# Altium footprint library INDC1005X60L.PCBLIB: 1 footprints
Each footprint in its own frame and in the unit in brackets; x right, y up, seen from the top. Pads: shape width x height; smd on the part's side, far side on the other; paste and mask are expansions set on the pad; w line width, h text height; cw(c..) or ccw(c..) is an arc to the next point about the centre after c.
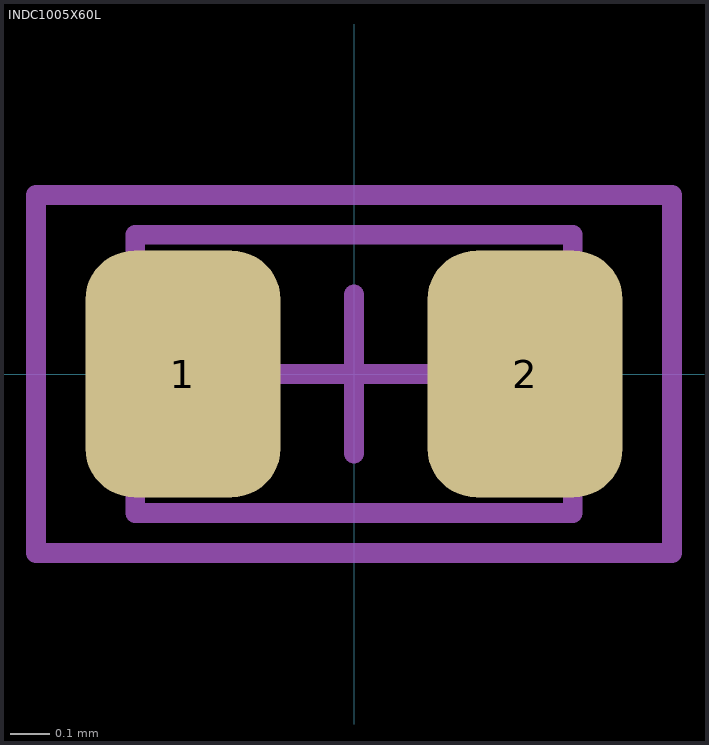
[diagram p0: the footprint, top view; thin cyan lines are the x and y axes]

## INDC1005X60L [mm]
pads (2):
  rrect50% 0.49x0.62 smd: 1(-0.43,0) 2(0.43,0)
Mechanical 13:
  lines w0.001: -0.55,-0.35 0.55,-0.35 ; -0.55,-0.35 -0.55,0.35 ; -0.55,-0.35 0.55,-0.35 ; -0.55,-0.35 -0.55,0.35 ; -0.55,0.35 0.55,0.35 ; -0.55,0.35 0.55,0.35 ; 0.55,-0.35 0.55,0.35 ; 0.55,-0.35 0.55,0.35
  lines w0.05: -0.55,-0.35 0.55,-0.35 0.55,0.35 -0.55,0.35 -0.55,-0.35
Mechanical 15:
  lines w0.05: -0.2,0 0.2,0 ; 0,-0.2 0,0.2 ; -0.8,-0.45 0.8,-0.45 0.8,0.45 -0.8,0.45 -0.8,-0.45
3D body: height 0.5, standoff 0.05, extent 0.375,-0.35 0.55,0.35
3D body: height 0.5, standoff 0.05, extent -0.375,-0.35 0.375,0.35
3D body: height 0.5, standoff 0.05, extent -0.55,-0.35 -0.375,0.35